# Altium integrated library Maxim Power Mgt Voltage Reference.IntLib: 16 symbols
Pins are listed as number, name and electrical type; pins without a type are passive.

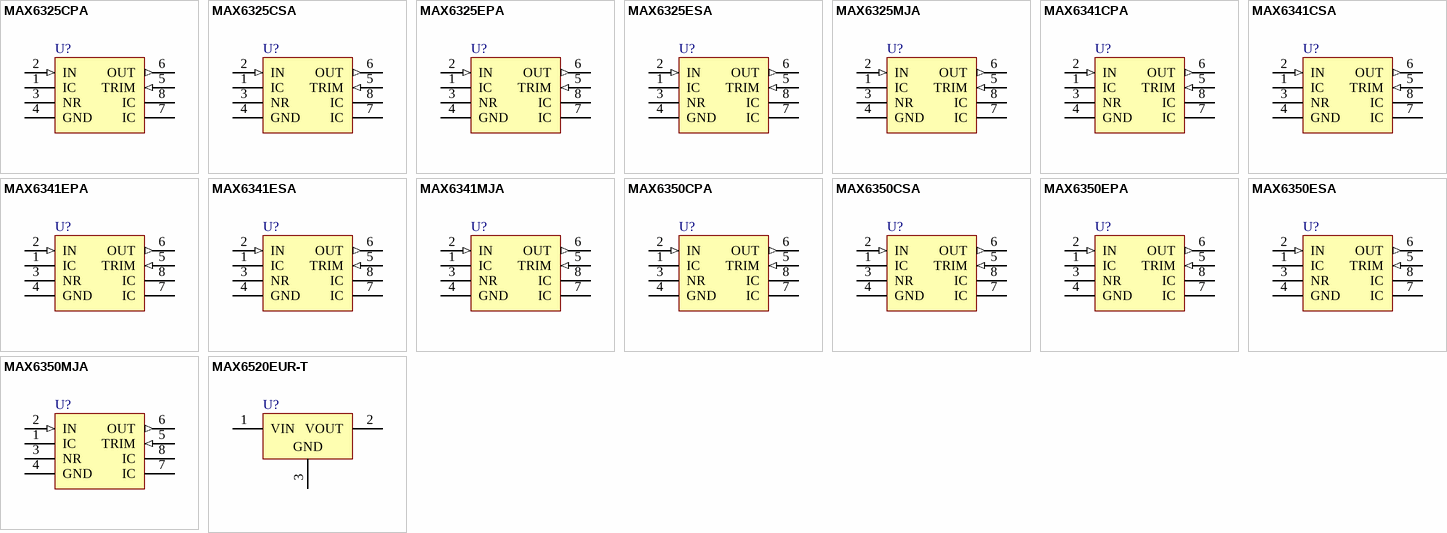
[diagram p0: symbols MAX6325CPA to MAX6520EUR-T]

## MAX6325CPA
designator U?
1ppm/°C, Low-Noise, +2.5V Voltage Reference; Note: The IC pins are internally connected; do not use.; Published: 16-Jan-2001; LatestRevisionDate: 29-May-2009; LatestRevisionNote: Component Body Added.; DatasheetVersion: Apr-1997; PackageVersion: RevB, 21-0043; PackageReference: PA8; Publisher: Altium Limited; PackageDescription: DIP, 8-Pin, Row Spacing 7.62 mm, Pitch 2.54 mm; Code_JEDEC: MS-001-AB; ComponentLink1Description: Manufacturer Link; ComponentLink1URL: http://www.maxim-ic.com/; ComponentLink2Description: Datasheet; ComponentLink2URL: http://pdfserv.maxim-ic.com/en/ds/MAX6325-MAX6350.pdf
footprint PA8 (DIP, 8-Leads, Row Spacing 7.62mm, Pitch 2.54mm, Body 9.38x7.24mm)
3D model PA8 (DIP, 8-Pin, Row Spacing 7.62 mm, Pitch 2.54 mm)
pins: 1 IC, 2 IN (in), 3 NR, 4 GND (power), 5 TRIM (in), 6 OUT (out), 7 IC, 8 IC

## MAX6325CSA
designator U?
1ppm/°C, Low-Noise, +2.5V Voltage Reference; Note: The IC pins are internally connected; do not use.; Published: 16-Jan-2001; LatestRevisionDate: 13-Apr-2006; LatestRevisionNote: IPC-7351 Footprint Added.; DatasheetVersion: Apr-1997; PackageReference: NSO8; Publisher: Altium Limited; PackageDescription: 8-Pin Small Outline Integrated Circuit 1.27 mm Pitch; Code_JEDEC: MS-012-AA; Code_IPC: SOIC127P600-8; ComponentLink1Description: Manufacturer Link; ComponentLink1URL: http://www.maxim-ic.com/; ComponentLink2Description: Datasheet; ComponentLink2URL: http://pdfserv.maxim-ic.com/en/ds/MAX6325-MAX6350.pdf
footprint NSO8_N (SOIC, 8-Leads, Body 4.9x3.9mm, Pitch 1.27mm, IPC Medium Density)
footprint NSO8_L (SOIC, 8-Leads, Body 4.9x3.9mm, Pitch 1.27mm, IPC High Density)
footprint NSO8_M (SOIC, 8-Leads, Body 4.9x3.9mm, Pitch 1.27mm, IPC Low Density)
3D model NSO8 (8-Pin Small Outline Integrated Circuit 1.27 mm Pitch)
pins: 1 IC, 2 IN (in), 3 NR, 4 GND (power), 5 TRIM (in), 6 OUT (out), 7 IC, 8 IC

## MAX6325EPA
designator U?
1ppm/°C, Low-Noise, +2.5V Voltage Reference; Note: The IC pins are internally connected; do not use.; Published: 16-Jan-2001; LatestRevisionDate: 29-May-2009; LatestRevisionNote: Component Body Added.; DatasheetVersion: Apr-1997; PackageVersion: RevB, 21-0043; PackageReference: PA8; Publisher: Altium Limited; PackageDescription: DIP, 8-Pin, Row Spacing 7.62 mm, Pitch 2.54 mm; Code_JEDEC: MS-001-AB; ComponentLink1Description: Manufacturer Link; ComponentLink1URL: http://www.maxim-ic.com/; ComponentLink2Description: Datasheet; ComponentLink2URL: http://pdfserv.maxim-ic.com/en/ds/MAX6325-MAX6350.pdf
footprint PA8 (DIP, 8-Leads, Row Spacing 7.62mm, Pitch 2.54mm, Body 9.38x7.24mm)
3D model PA8 (DIP, 8-Pin, Row Spacing 7.62 mm, Pitch 2.54 mm)
pins: 1 IC, 2 IN (in), 3 NR, 4 GND (power), 5 TRIM (in), 6 OUT (out), 7 IC, 8 IC

## MAX6325ESA
designator U?
1ppm/°C, Low-Noise, +2.5V Voltage Reference; Note: The IC pins are internally connected; do not use.; Published: 16-Jan-2001; LatestRevisionDate: 13-Apr-2006; LatestRevisionNote: IPC-7351 Footprint Added.; DatasheetVersion: Apr-1997; PackageReference: NSO8; Publisher: Altium Limited; PackageDescription: 8-Pin Small Outline Integrated Circuit 1.27 mm Pitch; Code_JEDEC: MS-012-AA; Code_IPC: SOIC127P600-8; ComponentLink1Description: Manufacturer Link; ComponentLink1URL: http://www.maxim-ic.com/; ComponentLink2Description: Datasheet; ComponentLink2URL: http://pdfserv.maxim-ic.com/en/ds/MAX6325-MAX6350.pdf
footprint NSO8_N (SOIC, 8-Leads, Body 4.9x3.9mm, Pitch 1.27mm, IPC Medium Density)
footprint NSO8_L (SOIC, 8-Leads, Body 4.9x3.9mm, Pitch 1.27mm, IPC High Density)
footprint NSO8_M (SOIC, 8-Leads, Body 4.9x3.9mm, Pitch 1.27mm, IPC Low Density)
3D model NSO8 (8-Pin Small Outline Integrated Circuit 1.27 mm Pitch)
pins: 1 IC, 2 IN (in), 3 NR, 4 GND (power), 5 TRIM (in), 6 OUT (out), 7 IC, 8 IC

## MAX6325MJA
designator U?
1ppm/°C, Low-Noise, +2.5V Voltage Reference; Note: The IC pins are internally connected; do not use.; Published: 16-Jan-2001; LatestRevisionDate: 29-May-2009; LatestRevisionNote: Component Body Added.; DatasheetVersion: Apr-1997; PackageVersion: 1996; PackageReference: JA8; Publisher: Altium Limited; PackageDescription: DIP, 8-Pin, Row Spacing 7.62 mm, Pitch 2.54 mm; ComponentLink1Description: Manufacturer Link; ComponentLink1URL: http://www.maxim-ic.com/; ComponentLink2Description: Datasheet; ComponentLink2URL: http://pdfserv.maxim-ic.com/en/ds/MAX6325-MAX6350.pdf
footprint JA8 (DIP, 8-Leads, Row Spacing 7.62mm, Pitch 2.54mm, Body 9.91x6.73mm)
3D model PA8 (DIP, 8-Pin, Row Spacing 7.62 mm, Pitch 2.54 mm)
pins: 1 IC, 2 IN (in), 3 NR, 4 GND (power), 5 TRIM (in), 6 OUT (out), 7 IC, 8 IC

## MAX6341CPA
designator U?
1ppm/°C, Low-Noise, +4.096V Voltage Reference; Note: The IC pins are internally connected; do not use.; Published: 16-Jan-2001; LatestRevisionDate: 29-May-2009; LatestRevisionNote: Component Body Added.; DatasheetVersion: Apr-1997; PackageVersion: RevB, 21-0043; PackageReference: PA8; Publisher: Altium Limited; PackageDescription: DIP, 8-Pin, Row Spacing 7.62 mm, Pitch 2.54 mm; Code_JEDEC: MS-001-AB; ComponentLink1Description: Manufacturer Link; ComponentLink1URL: http://www.maxim-ic.com/; ComponentLink2Description: Datasheet; ComponentLink2URL: http://pdfserv.maxim-ic.com/en/ds/MAX6325-MAX6350.pdf
footprint PA8 (DIP, 8-Leads, Row Spacing 7.62mm, Pitch 2.54mm, Body 9.38x7.24mm)
3D model PA8 (DIP, 8-Pin, Row Spacing 7.62 mm, Pitch 2.54 mm)
pins: 1 IC, 2 IN (in), 3 NR, 4 GND (power), 5 TRIM (in), 6 OUT (out), 7 IC, 8 IC

## MAX6341CSA
designator U?
1ppm/°C, Low-Noise, +4.096V Voltage Reference; Note: The IC pins are internally connected; do not use.; Published: 16-Jan-2001; LatestRevisionDate: 13-Apr-2006; LatestRevisionNote: IPC-7351 Footprint Added.; DatasheetVersion: Apr-1997; PackageReference: NSO8; Publisher: Altium Limited; PackageDescription: 8-Pin Small Outline Integrated Circuit 1.27 mm Pitch; Code_JEDEC: MS-012-AA; Code_IPC: SOIC127P600-8; ComponentLink1Description: Manufacturer Link; ComponentLink1URL: http://www.maxim-ic.com/; ComponentLink2Description: Datasheet; ComponentLink2URL: http://pdfserv.maxim-ic.com/en/ds/MAX6325-MAX6350.pdf
footprint NSO8_N (SOIC, 8-Leads, Body 4.9x3.9mm, Pitch 1.27mm, IPC Medium Density)
footprint NSO8_L (SOIC, 8-Leads, Body 4.9x3.9mm, Pitch 1.27mm, IPC High Density)
footprint NSO8_M (SOIC, 8-Leads, Body 4.9x3.9mm, Pitch 1.27mm, IPC Low Density)
3D model NSO8 (8-Pin Small Outline Integrated Circuit 1.27 mm Pitch)
pins: 1 IC, 2 IN (in), 3 NR, 4 GND (power), 5 TRIM (in), 6 OUT (out), 7 IC, 8 IC

## MAX6341EPA
designator U?
1ppm/°C, Low-Noise, +4.096V Voltage Reference; Note: The IC pins are internally connected; do not use.; Published: 16-Jan-2001; LatestRevisionDate: 29-May-2009; LatestRevisionNote: Component Body Added.; DatasheetVersion: Apr-1997; PackageVersion: RevB, 21-0043; PackageReference: PA8; Publisher: Altium Limited; PackageDescription: DIP, 8-Pin, Row Spacing 7.62 mm, Pitch 2.54 mm; Code_JEDEC: MS-001-AB; ComponentLink1Description: Manufacturer Link; ComponentLink1URL: http://www.maxim-ic.com/; ComponentLink2Description: Datasheet; ComponentLink2URL: http://pdfserv.maxim-ic.com/en/ds/MAX6325-MAX6350.pdf
footprint PA8 (DIP, 8-Leads, Row Spacing 7.62mm, Pitch 2.54mm, Body 9.38x7.24mm)
3D model PA8 (DIP, 8-Pin, Row Spacing 7.62 mm, Pitch 2.54 mm)
pins: 1 IC, 2 IN (in), 3 NR, 4 GND (power), 5 TRIM (in), 6 OUT (out), 7 IC, 8 IC

## MAX6341ESA
designator U?
1ppm/°C, Low-Noise, +4.096V Voltage Reference; Note: The IC pins are internally connected; do not use.; Published: 16-Jan-2001; LatestRevisionDate: 13-Apr-2006; LatestRevisionNote: IPC-7351 Footprint Added.; DatasheetVersion: Apr-1997; PackageReference: NSO8; Publisher: Altium Limited; PackageDescription: 8-Pin Small Outline Integrated Circuit 1.27 mm Pitch; Code_JEDEC: MS-012-AA; Code_IPC: SOIC127P600-8; ComponentLink1Description: Manufacturer Link; ComponentLink1URL: http://www.maxim-ic.com/; ComponentLink2Description: Datasheet; ComponentLink2URL: http://pdfserv.maxim-ic.com/en/ds/MAX6325-MAX6350.pdf
footprint NSO8_N (SOIC, 8-Leads, Body 4.9x3.9mm, Pitch 1.27mm, IPC Medium Density)
footprint NSO8_L (SOIC, 8-Leads, Body 4.9x3.9mm, Pitch 1.27mm, IPC High Density)
footprint NSO8_M (SOIC, 8-Leads, Body 4.9x3.9mm, Pitch 1.27mm, IPC Low Density)
3D model NSO8 (8-Pin Small Outline Integrated Circuit 1.27 mm Pitch)
pins: 1 IC, 2 IN (in), 3 NR, 4 GND (power), 5 TRIM (in), 6 OUT (out), 7 IC, 8 IC

## MAX6341MJA
designator U?
1ppm/°C, Low-Noise, +4.096V Voltage Reference; Note: The IC pins are internally connected; do not use.; Published: 16-Jan-2001; LatestRevisionDate: 29-May-2009; LatestRevisionNote: Component Body Added.; DatasheetVersion: Apr-1997; PackageVersion: 1996; PackageReference: JA8; Publisher: Altium Limited; PackageDescription: DIP, 8-Pin, Row Spacing 7.62 mm, Pitch 2.54 mm; ComponentLink1Description: Manufacturer Link; ComponentLink1URL: http://www.maxim-ic.com/; ComponentLink2Description: Datasheet; ComponentLink2URL: http://pdfserv.maxim-ic.com/en/ds/MAX6325-MAX6350.pdf
footprint JA8 (DIP, 8-Leads, Row Spacing 7.62mm, Pitch 2.54mm, Body 9.91x6.73mm)
3D model PA8 (DIP, 8-Pin, Row Spacing 7.62 mm, Pitch 2.54 mm)
pins: 1 IC, 2 IN (in), 3 NR, 4 GND (power), 5 TRIM (in), 6 OUT (out), 7 IC, 8 IC

## MAX6350CPA
designator U?
1ppm/°C, Low-Noise, +5V Voltage Reference; Note: The IC pins are internally connected; do not use.; Published: 16-Jan-2001; LatestRevisionDate: 29-May-2009; LatestRevisionNote: Component Body Added.; DatasheetVersion: Apr-1997; PackageVersion: RevB, 21-0043; PackageReference: PA8; Publisher: Altium Limited; PackageDescription: DIP, 8-Pin, Row Spacing 7.62 mm, Pitch 2.54 mm; Code_JEDEC: MS-001-AB; ComponentLink1Description: Manufacturer Link; ComponentLink1URL: http://www.maxim-ic.com/; ComponentLink2Description: Datasheet; ComponentLink2URL: http://pdfserv.maxim-ic.com/en/ds/MAX6325-MAX6350.pdf
footprint PA8 (DIP, 8-Leads, Row Spacing 7.62mm, Pitch 2.54mm, Body 9.38x7.24mm)
3D model PA8 (DIP, 8-Pin, Row Spacing 7.62 mm, Pitch 2.54 mm)
pins: 1 IC, 2 IN (in), 3 NR, 4 GND (power), 5 TRIM (in), 6 OUT (out), 7 IC, 8 IC

## MAX6350CSA
designator U?
1ppm/°C, Low-Noise, +5V Voltage Reference; Note: The IC pins are internally connected; do not use.; Published: 16-Jan-2001; LatestRevisionDate: 13-Apr-2006; LatestRevisionNote: IPC-7351 Footprint Added.; DatasheetVersion: Apr-1997; PackageReference: NSO8; Publisher: Altium Limited; PackageDescription: 8-Pin Small Outline Integrated Circuit 1.27 mm Pitch; Code_JEDEC: MS-012-AA; Code_IPC: SOIC127P600-8; ComponentLink1Description: Manufacturer Link; ComponentLink1URL: http://www.maxim-ic.com/; ComponentLink2Description: Datasheet; ComponentLink2URL: http://pdfserv.maxim-ic.com/en/ds/MAX6325-MAX6350.pdf
footprint NSO8_N (SOIC, 8-Leads, Body 4.9x3.9mm, Pitch 1.27mm, IPC Medium Density)
footprint NSO8_L (SOIC, 8-Leads, Body 4.9x3.9mm, Pitch 1.27mm, IPC High Density)
footprint NSO8_M (SOIC, 8-Leads, Body 4.9x3.9mm, Pitch 1.27mm, IPC Low Density)
3D model NSO8 (8-Pin Small Outline Integrated Circuit 1.27 mm Pitch)
pins: 1 IC, 2 IN (in), 3 NR, 4 GND (power), 5 TRIM (in), 6 OUT (out), 7 IC, 8 IC

## MAX6350EPA
designator U?
1ppm/°C, Low-Noise, +5V Voltage Reference; Note: The IC pins are internally connected; do not use.; Published: 16-Jan-2001; LatestRevisionDate: 29-May-2009; LatestRevisionNote: Component Body Added.; DatasheetVersion: Apr-1997; PackageVersion: RevB, 21-0043; PackageReference: PA8; Publisher: Altium Limited; PackageDescription: DIP, 8-Pin, Row Spacing 7.62 mm, Pitch 2.54 mm; Code_JEDEC: MS-001-AB; ComponentLink1Description: Manufacturer Link; ComponentLink1URL: http://www.maxim-ic.com/; ComponentLink2Description: Datasheet; ComponentLink2URL: http://pdfserv.maxim-ic.com/en/ds/MAX6325-MAX6350.pdf
footprint PA8 (DIP, 8-Leads, Row Spacing 7.62mm, Pitch 2.54mm, Body 9.38x7.24mm)
3D model PA8 (DIP, 8-Pin, Row Spacing 7.62 mm, Pitch 2.54 mm)
pins: 1 IC, 2 IN (in), 3 NR, 4 GND (power), 5 TRIM (in), 6 OUT (out), 7 IC, 8 IC

## MAX6350ESA
designator U?
1ppm/°C, Low-Noise, +5V Voltage Reference; Note: The IC pins are internally connected; do not use.; Published: 16-Jan-2001; LatestRevisionDate: 13-Apr-2006; LatestRevisionNote: IPC-7351 Footprint Added.; DatasheetVersion: Apr-1997; PackageReference: NSO8; Publisher: Altium Limited; PackageDescription: 8-Pin Small Outline Integrated Circuit 1.27 mm Pitch; Code_JEDEC: MS-012-AA; Code_IPC: SOIC127P600-8; ComponentLink1Description: Manufacturer Link; ComponentLink1URL: http://www.maxim-ic.com/; ComponentLink2Description: Datasheet; ComponentLink2URL: http://pdfserv.maxim-ic.com/en/ds/MAX6325-MAX6350.pdf
footprint NSO8_N (SOIC, 8-Leads, Body 4.9x3.9mm, Pitch 1.27mm, IPC Medium Density)
footprint NSO8_L (SOIC, 8-Leads, Body 4.9x3.9mm, Pitch 1.27mm, IPC High Density)
footprint NSO8_M (SOIC, 8-Leads, Body 4.9x3.9mm, Pitch 1.27mm, IPC Low Density)
3D model NSO8 (8-Pin Small Outline Integrated Circuit 1.27 mm Pitch)
pins: 1 IC, 2 IN (in), 3 NR, 4 GND (power), 5 TRIM (in), 6 OUT (out), 7 IC, 8 IC

## MAX6350MJA
designator U?
1ppm/°C, Low-Noise, +5V Voltage Reference; Note: The IC pins are internally connected; do not use.; Published: 16-Jan-2001; LatestRevisionDate: 29-May-2009; LatestRevisionNote: Component Body Added.; DatasheetVersion: Apr-1997; PackageVersion: 1996; PackageReference: JA8; Publisher: Altium Limited; PackageDescription: DIP, 8-Pin, Row Spacing 7.62 mm, Pitch 2.54 mm; ComponentLink1Description: Manufacturer Link; ComponentLink1URL: http://www.maxim-ic.com/; ComponentLink2Description: Datasheet; ComponentLink2URL: http://pdfserv.maxim-ic.com/en/ds/MAX6325-MAX6350.pdf
footprint JA8 (DIP, 8-Leads, Row Spacing 7.62mm, Pitch 2.54mm, Body 9.91x6.73mm)
3D model PA8 (DIP, 8-Pin, Row Spacing 7.62 mm, Pitch 2.54 mm)
pins: 1 IC, 2 IN (in), 3 NR, 4 GND (power), 5 TRIM (in), 6 OUT (out), 7 IC, 8 IC

## MAX6520EUR-T
designator U?
3-Terminal, 1.2V Voltage Reference; Published: 16-Jan-2001; LatestRevisionDate: 29-May-2009; LatestRevisionNote: IPC-7351 Footprint Added.; DatasheetVersion: Sep-1996; PackageVersion: 1996; PackageReference: SOT23-3; Publisher: Altium Limited; PackageDescription: 3-Pin SOT-23 Package 0.95 mm Pitch, 2.3 mm Lead Span; ComponentLink1Description: Manufacturer Link; ComponentLink1URL: http://www.maxim-ic.com/; ComponentLink2Description: Datasheet; ComponentLink2URL: http://pdfserv.maxim-ic.com/en/ds/MAX6520.pdf
footprint SOT23-3_N (SOT23, 3-Leads, Body 2.9x1.3mm, Pitch 0.95mm, Lead Span 2.3mm, IPC Medium Density)
footprint SOT23-3_L (SOT23, 3-Leads, Body 2.9x1.3mm, Pitch 0.95mm, Lead Span 2.3mm, IPC High Density)
footprint SOT23-3_M (SOT23, 3-Leads, Body 2.9x1.3mm, Pitch 0.95mm, Lead Span 2.3mm, IPC Low Density)
pins: 1 VIN, 2 VOUT, 3 GND (power)